# EAGLE library part 14*89 (library dec-con)
Quad line receivers BUFFER,
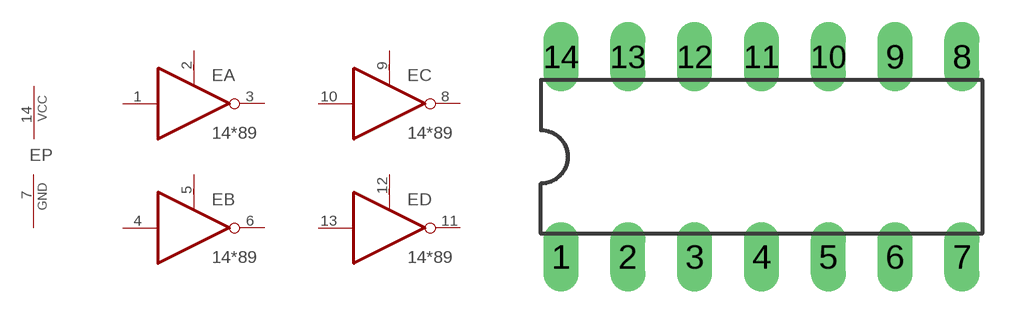
[diagram p85: symbol with the pads of DIL14; footprint DIL14]

Designator prefix E; gates A=1489 B=1489 C=1489 D=1489 P=PWRN

## 1489N, 14C89N  [DIL14]
1  A:I  in
2  A:RC  in
3  A:O  out
4  B:I  in
5  B:RC  in
6  B:O  out
7  P:GND  pwr
8  C:O  out
9  C:RC  in
10  C:I  in
11  D:O  out
12  D:RC  in
13  D:I  in
14  P:VCC  pwr

## Footprint DIL14 (pad centres in mm)
Dual In Line Package
drill 0.813 long: 1 -7.62,-3.81; 2 -5.08,-3.81; 3 -2.54,-3.81; 4 0,-3.81; 5 2.54,-3.81; 6 5.08,-3.81; 7 7.62,-3.81; 8 7.62,3.81; 9 5.08,3.81; 10 2.54,3.81; 11 0,3.81; 12 -2.54,3.81; 13 -5.08,3.81; 14 -7.62,3.81